# Altium footprint library Resistors.PcbLib: 20 footprints (part 1 of 2)
Each footprint in its own frame and in the unit in brackets; x right, y up, seen from the top. Pads: shape width x height; smd on the part's side, far side on the other; paste and mask are expansions set on the pad; w line width, h text height; cw(c..) or ccw(c..) is an arc to the next point about the centre after c.
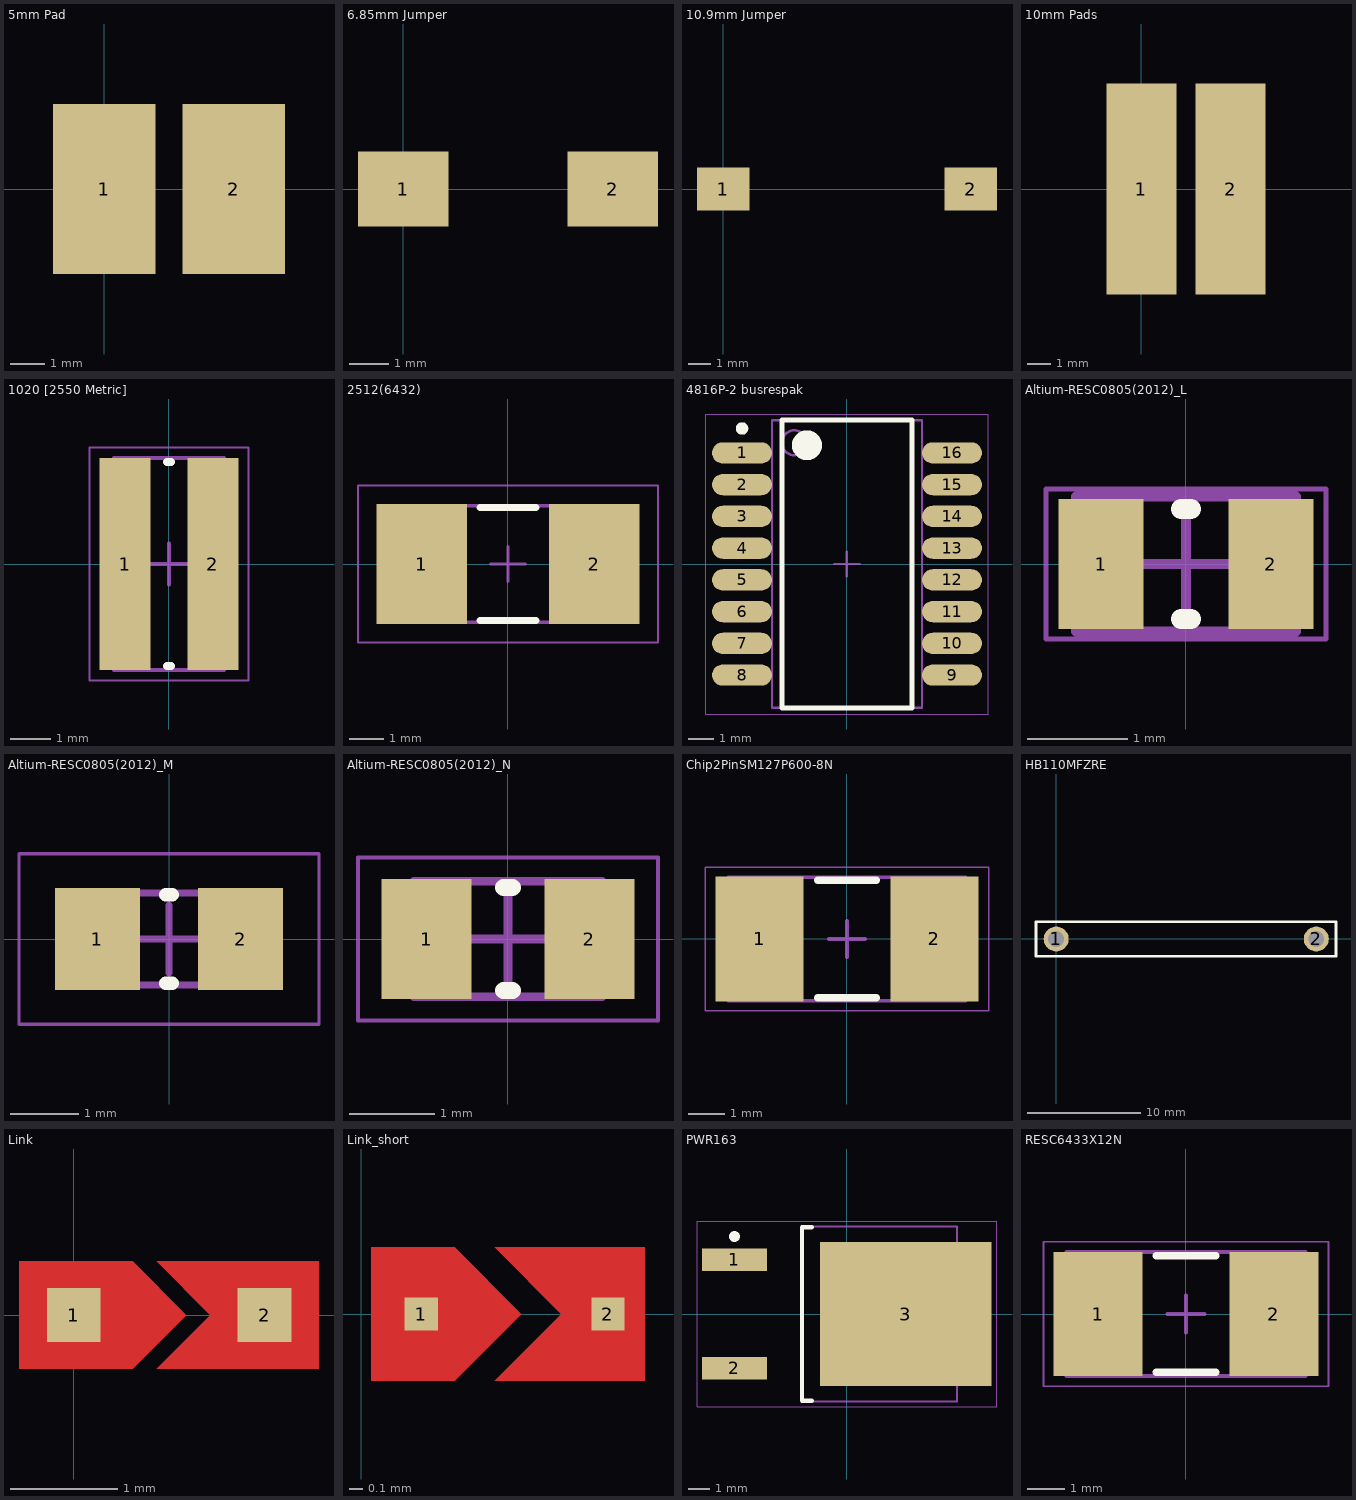
[diagram p0: the footprints below, top view; thin cyan lines are the x and y axes]

## 5mm Pad [mm] "Medium linking pads"
pads (2):
  rect 3x5 smd: 1(0,0) 2(3.8,0)

## 6.85mm Jumper [mm]
pads (2):
  rect 2.3x1.9 smd: 1(0,0) 2(5.32,0)
3D body "s1731-46r.stp": height 2.54, standoff 0, extent -0.864,-1.275 5.994,1.265

## 10.9mm Jumper [mm]
pads (2):
  rect 2.3x1.9 smd: 1(0,0) 2(10.9,0)
3D body "s1621-46r.stp": height 1.81, standoff 0.01, extent -0.725,-1.15 11.575,1.15

## 10mm Pads [mm] "Large linking pads"
pads (2):
  rect 3x9 smd: 1(0,0) 2(3.8,0)

## 1020 [2550 Metric] [mm] "Chip Resistor, 2-Leads, Body 2.50x5.00mm, IPC Medium Density"
height 0.8
pads (2):
  rect 1.25x5.2 smd: 1(-1.075,0) 2(1.075,0)
Top Overlay:
  lines w0.2: -0.05,-2.5 0.05,-2.5 ; -0.05,2.5 0.05,2.5
Mechanical 13:
  lines w0.1: -1.35,-2.6 -1.35,2.6 1.35,2.6 1.35,-2.6 -1.35,-2.6
Mechanical 15:
  lines w0.05: -1.95,-2.85 -1.95,2.85 1.95,2.85 1.95,-2.85 -1.95,-2.85
  lines w0.1: -0.5,0 0.5,0 ; 0,-0.5 0,0.5
3D body "1020 [2550 Metric].step": height 0.8, standoff 0, extent -1.35,-2.6 1.35,2.6

## 2512(6432) [mm]
height 1.2
pads (2):
  rect 2.6x3.45 smd: 1(-2.475,0) 2(2.475,0)
Top Overlay:
  lines w0.2: -0.8,-1.625 0.8,-1.625 ; -0.8,1.625 0.8,1.625
Mechanical 13:
  lines w0.1: -3.225,-1.675 -3.225,1.675 3.225,1.675 3.225,-1.675 -3.225,-1.675
Mechanical 15:
  lines w0.05: -4.3,-2.25 -4.3,2.25 4.3,2.25 4.3,-2.25 -4.3,-2.25
  lines w0.1: -0.5,0 0.5,0 ; 0,-0.5 0,0.5
3D body "2512(6432).step": height 1.2, standoff 0, extent -3.225,-1.675 3.225,1.675

## 4816P-2 busrespak [mm] "SOIC, 16-Leads, Body 11.35x5.80mm, Pitch 1.27mm, IPC Medium Density"
height 2.65
pads (16):
  oval 2.4x0.85 smd: 1(-4.2,4.445) 2(-4.2,3.175) 3(-4.2,1.905) 4(-4.2,0.635) 5(-4.2,-0.635) 6(-4.2,-1.905) 7(-4.2,-3.175) 8(-4.2,-4.445) 9(4.2,-4.445) 10(4.2,-3.175) 11(4.2,-1.905) 12(4.2,-0.635) 13(4.2,0.635) 14(4.2,1.905) 15(4.2,3.175) 16(4.2,4.445)
Top Overlay:
  circle w0.25: c-4.2,5.42 r0.125
  circle w0.6: c-1.6,4.75 r0.3
  lines w0.2: -2.6,-5.75 -2.6,5.75 2.6,5.75 2.6,-5.75 -2.6,-5.75
Mechanical 13:
  circle w0.1: c-2.1,4.85 r0.5
  lines w0.1: -3,-5.75 -3,5.75 3,5.75 3,-5.75 -3,-5.75
Mechanical 15:
  lines w0.05: -5.65,-6 -5.65,6 5.65,6 5.65,-6 -5.65,-6
  lines w0.1: -0.5,0 0.5,0 ; 0,-0.5 0,0.5
3D body: height 2.65, standoff 0.1, extent -3,-5.75 3,5.75

## Altium-RESC0805(2012)_L [mm] "0805 altium resistor"
height 2
pads (2):
  rect 0.85x1.3 smd: 1(-0.85,0) 2(0.85,0)
Top Overlay:
  lines w0.2: -0.05,-0.55 0.05,-0.55 ; -0.05,0.55 0.05,0.55
Mechanical 13:
  lines w0.1: -1.1,-0.675 1.1,-0.675 1.1,0.675 -1.1,0.675 -1.1,-0.675
Mechanical 15:
  lines w0.05: -1.4,-0.75 1.4,-0.75 1.4,0.75 -1.4,0.75 -1.4,-0.75
  lines w0.1: -0.5,0 0.5,0 ; 0,-0.5 0,0.5
3D body: height 0.7, standoff 0, extent 0.68,-0.675 1.1,0.675
3D body: height 0.7, standoff 0, extent -0.68,-0.675 0.68,0.675
3D body: height 0.7, standoff 0, extent -1.1,-0.675 -0.68,0.675

## Altium-RESC0805(2012)_M [mm] "0805_M size"
height 2
pads (2):
  rect 1.25x1.5 smd: 1(-1.05,0) 2(1.05,0)
Top Overlay:
  lines w0.2: -0.05,-0.65 0.05,-0.65 ; -0.05,0.65 0.05,0.65
Mechanical 13:
  lines w0.1: -1.1,-0.675 1.1,-0.675 1.1,0.675 -1.1,0.675 -1.1,-0.675
Mechanical 15:
  lines w0.05: -2.2,-1.25 2.2,-1.25 2.2,1.25 -2.2,1.25 -2.2,-1.25
  lines w0.1: -0.5,0 0.5,0 ; 0,-0.5 0,0.5
3D body: height 0.7, standoff 0, extent 0.68,-0.675 1.1,0.675
3D body: height 0.7, standoff 0, extent -0.68,-0.675 0.68,0.675
3D body: height 0.7, standoff 0, extent -1.1,-0.675 -0.68,0.675

## Altium-RESC0805(2012)_N [mm] "Altium_RESC0805(2012)_N"
height 2
pads (2):
  rect 1.05x1.4 smd: 1(-0.95,0) 2(0.95,0)
Top Overlay:
  lines w0.2: -0.05,-0.6 0.05,-0.6 ; -0.05,0.6 0.05,0.6
Mechanical 13:
  lines w0.1: -1.1,-0.675 1.1,-0.675 1.1,0.675 -1.1,0.675 -1.1,-0.675
Mechanical 15:
  lines w0.05: -1.75,-0.95 1.75,-0.95 1.75,0.95 -1.75,0.95 -1.75,-0.95
  lines w0.1: -0.5,0 0.5,0 ; 0,-0.5 0,0.5
3D body: height 0.7, standoff 0, extent -1.1,-0.675 -0.68,0.675
3D body: height 0.7, standoff 0, extent -0.68,-0.675 0.68,0.675
3D body: height 0.7, standoff 0, extent 0.68,-0.675 1.1,0.675

## Chip2PinSM127P600-8N [mm] "2512(6432)"
height 1.2
pads (2):
  rect 2.4x3.4 smd: 1(-2.375,0) 2(2.375,0)
Top Overlay:
  lines w0.2: -0.8,-1.6 0.8,-1.6 ; -0.8,1.6 0.8,1.6
Mechanical 13:
  lines w0.1: -3.225,-1.675 3.225,-1.675 3.225,1.675 -3.225,1.675 -3.225,-1.675
Mechanical 15:
  lines w0.05: -3.85,-1.95 3.85,-1.95 3.85,1.95 -3.85,1.95 -3.85,-1.95
  lines w0.1: -0.5,0 0.5,0 ; 0,-0.5 0,0.5
3D body "Chip2PinSM127P600-8N.step": height 1.2, standoff 0, extent -3.225,-1.675 3.225,1.675

## HB110MFZRE [mm] "10 Mohm, HB Series, 2 W, 7.5kV"
height 10.4
pads (2):
  round 2.2 hole 1.4: 1(0,0) 2(22.9,0)
Top Overlay:
  lines w0.254: -1.778,-1.524 24.638,-1.524 24.638,1.524 -1.778,1.524 -1.778,-1.524
3D body: height 10.5, standoff 0, extent -1.778,-1.524 24.638,1.524

## Link [mm]
pads (2):
  rect 0.5x0.5 smd: 1(0,0) 2(1.778,0)
Top Layer:
  region: 2.285,0.5 0.773,0.5 1.273,0 0.773,-0.5 2.285,-0.5
  region: 0.55,0.5 1.05,0 0.55,-0.5 -0.51,-0.5 -0.51,0.5
Top Solder:
  pour cut-out: 0.22,0.613 0.22,-0.592 1.82,-0.592 1.82,0.613

## Link_short [mm] "link"
height 2
pads (2):
  rect 0.25x0.25 smd: 1(0.45,0) 2(1.85,0)
Top Layer:
  region: 1,-0.5 1.5,0 1,0.5 2.125,0.5 2.125,-0.5
  region: 0.075,-0.5 0.7,-0.5 1.2,0 0.7,0.5 0.075,0.5
Top Solder:
  region: -0.025,-0.6 2.225,-0.6 2.225,0.6 -0.025,0.6

## PWR163 [mm] "PWR163"
height 2.8
pads (3):
  rect 3.05x1.05 smd: 1(-5.25,2.54) 2(-5.25,-2.54)
  rect 8x6.7 smd: 3(2.75,0)
Top Overlay:
  circle w0.25: c-5.25,3.615 r0.125
  lines w0.2: -1.65,-4.05 -2.1,-4.05 -2.1,4.05 -1.65,4.05
Mechanical 13:
  lines w0.1: -2.1,-4.075 5.14,-4.075 5.14,4.075 -2.1,4.075 -2.1,-4.075
Mechanical 15:
  lines w0.05: -7,-4.325 7,-4.325 7,4.325 -7,4.325 -7,-4.325
  lines w0.1: -0.5,0 0.5,0 ; 0,-0.5 0,0.5
3D body "PWR163.step": height 2.8, standoff 0, extent -5.61,-4.075 6.69,4.075

## RESC6433X12N [mm] "Chip Resistor, 2-Leads, Body 6.41x3.28mm, IPC Medium Density"
height 1.2
pads (2):
  rect 2.4x3.35 smd: 1(-2.375,0) 2(2.375,0)
Top Overlay:
  lines w0.2: -0.8,-1.575 0.8,-1.575 ; -0.8,1.575 0.8,1.575
Mechanical 13:
  lines w0.1: -3.225,-1.675 -3.225,1.675 3.225,1.675 3.225,-1.675 -3.225,-1.675
Mechanical 15:
  lines w0.05: -3.85,-1.95 -3.85,1.95 3.85,1.95 3.85,-1.95 -3.85,-1.95
  lines w0.1: -0.5,0 0.5,0 ; 0,-0.5 0,0.5
3D body "RESC6433X12N.step": height 1.2, standoff 0, extent -3.225,-1.675 3.225,1.675